# Altium footprint library PCB - CONNECTOR - TE - TE 5530843-1.PcbLib: 1 footprints
Each footprint in its own frame and in the unit in brackets; x right, y up, seen from the top. Pads: shape width x height; smd on the part's side, far side on the other; paste and mask are expansions set on the pad; w line width, h text height; cw(c..) or ccw(c..) is an arc to the next point about the centre after c.
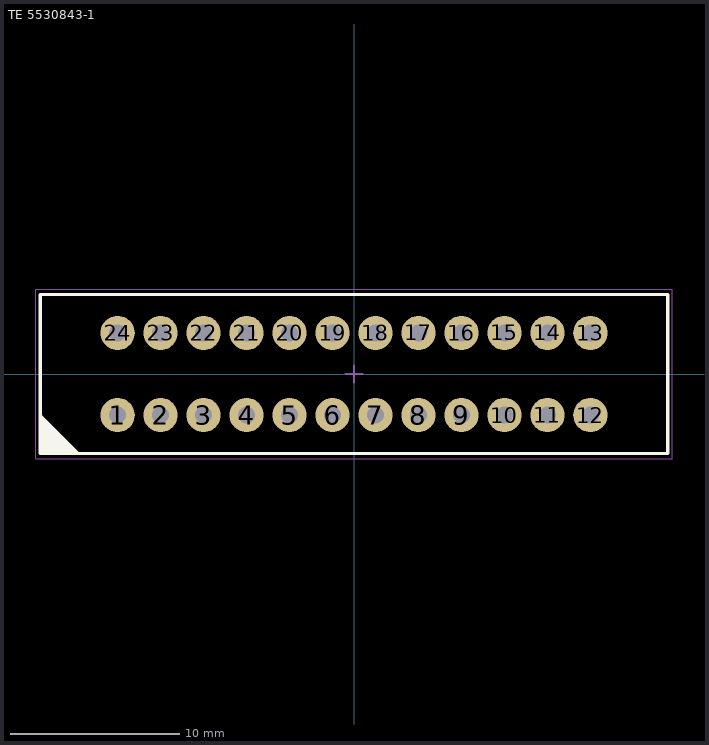
[diagram p0: the footprint, top view; thin cyan lines are the x and y axes]

## TE 5530843-1 [mil] "Card Edge Power Connectors, Board-to-Board, 24 Position, 2.54 mm [.1 in] Centerline, Power & Signal, 24 Power Positions, 0 Signal Positions"
height 550
pads (24):
  round 80 hole 40: 1(-550,-95.5) 2(-450,-95.5) 3(-350,-95.5) 4(-250,-95.5) 5(-150,-95.5) 6(-50,-95.5) 7(50,-95.5) 8(150,-95.5) 9(250,-95.5) 10(350,-95.5) 11(450,-95.5) 12(550,-95.5) 13(550,95.5) 14(450,95.5) 15(350,95.5) 16(250,95.5) 17(150,95.5) 18(50,95.5) 19(-50,95.5) 20(-150,95.5) 21(-250,95.5) 22(-350,95.5) 23(-450,95.5) 24(-550,95.5)
Top Overlay:
  region: -730,-185 -641.77,-185 -728.35,-98.43
  lines w7.87: -728.35,-98.43 -641.73,-185.04 ; -730,-185 730,-185 730,185 -730,185 -730,-185
Mechanical 13:
  lines w3.94: -730,-185 -730,185 730,185 730,-185 -730,-185
Mechanical 15 (Mech15):
  lines w1.97: -740.16,-196.85 -740.16,196.85 740.16,196.85 740.16,-196.85 -740.16,-196.85
  lines w3.94: -20,0 0,0 ; 0,-20 0,0 ; 0,20 0,0 ; 20,0 0,0
3D body "TE 5530843-1.step": height 610, standoff -125, extent -730,-184 730,184